# EAGLE library part LF356 (library BME_Components)
JFET Input Operational Amplifier, 8-pin MDIP
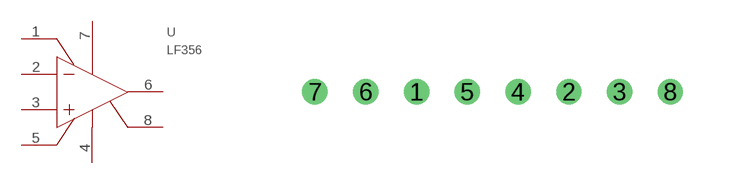
[diagram p30: symbol with the pads of LF356_PDIP-8; footprint LF356_PDIP-8]

Designator prefix U

## LF356LF356_LF356_PDIP-8 (CODE_JEDEC: MS-001-BA; COMPONENTLINK1DESCRIPTION: Datasheet URL; COMPTYPE: Amplifiers; MANUFACTURER: Texas Instruments; PACKAGEDESCRIPTION: MDIP, .365 x .250 x .130in, 8 Lead, .100in Pitch; PACKAGETOPMARKING: NSUZXYTTE#*LF*356N; PACKAGE_REFERENCE: P0008A; PINCOUNT: 8; POWERWISE: N; ROHS: N)  [LF356_PDIP-8]
1  BAL  pas
2  IN-  in
3  IN+  in
4  V-  pwr
5  BAL  pas
6  OUT  out
7  V+  pwr
8  NC  pas

## Footprint LF356_PDIP-8 (pad centres in mm)
drill 0.127 pad 0.254 round: 1 2.54,0; 2 6.35,0; 3 7.62,0; 4 5.08,0; 5 3.81,0; 6 1.27,0; 7 0,0; 8 8.89,0